# EAGLE library part NCJ10FI- (library con-neutrik_ag)
Neutrik Audio Connector XLR SERIES Stereo 1/4" jack with switch Source: www.neutrik.com/
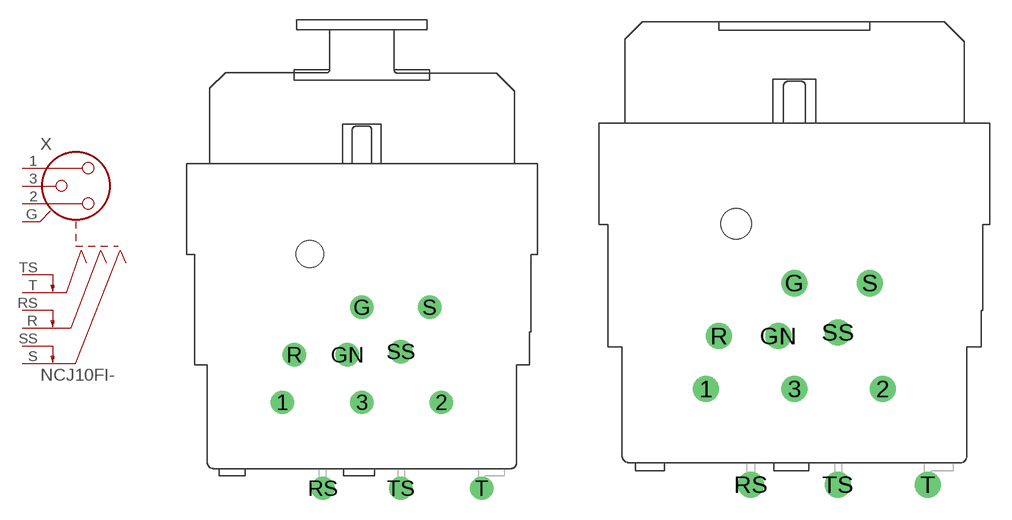
[diagram p0: symbol with the pads of NCJ10FI-H; footprints NCJ10FI-H, NCJ10FI-H-0]

Designator prefix X

## NCJ10FI-H (OC_FARNELL: unknown; OC_NEWARK: unknown)  [NCJ10FI-H]
1  1  pas
2  2  pas
3  3  pas
G  G  pas
R  R  pas
RS  RS  pas
S  S  pas
SS  SS  pas
T  T  pas
TS  TS  pas

## NCJ10FI-H-0 (MPN: NCJ10FI-H-0; OC_FARNELL: unknown; OC_NEWARK: 99B1398)  [NCJ10FI-H-0]
Pads as for NCJ10FI-H

## Footprint NCJ10FI-H (pad centres in mm)
Neutrik Audio Connector combo, 3-pole, female, XLR/switching ground stereo 1/4" jack Source: www.neutrik.com/...210_118401.pdf
drill 1.2: 1 -6.1,-18.4; 2 6.1,-18.4; 3 0,-18.4; G 0,-11.1; GN -1.1,-14.75; R -5.2,-14.75; RS -3,-25; S 5.2,-11.1; SS 3,-14.5; T 9.2,-25; TS 3,-25
hole 2.1 at -4,-7

## Footprint NCJ10FI-H-0 (pad centres in mm)
Neutrik Audio Connector combo, 3-pole, female, XLR/switching ground stereo 1/4" jack Source: www.neutrik.com/...210_263081.pdf
drill 1.2: 1 -6.1,-18.4; 2 6.1,-18.4; 3 0,-18.4; G 0,-11.1; GN -1.1,-14.75; R -5.2,-14.75; RS -3,-25; S 5.2,-11.1; SS 3,-14.5; T 9.2,-25; TS 3,-25
hole 2.1 at -4,-7